# Altium footprint library pcb lib.PcbLib: 160 footprints (part 6 of 10)
Each footprint in its own frame and in the unit in brackets; x right, y up, seen from the top. Pads: shape width x height; smd on the part's side, far side on the other; paste and mask are expansions set on the pad; w line width, h text height; cw(c..) or ccw(c..) is an arc to the next point about the centre after c.
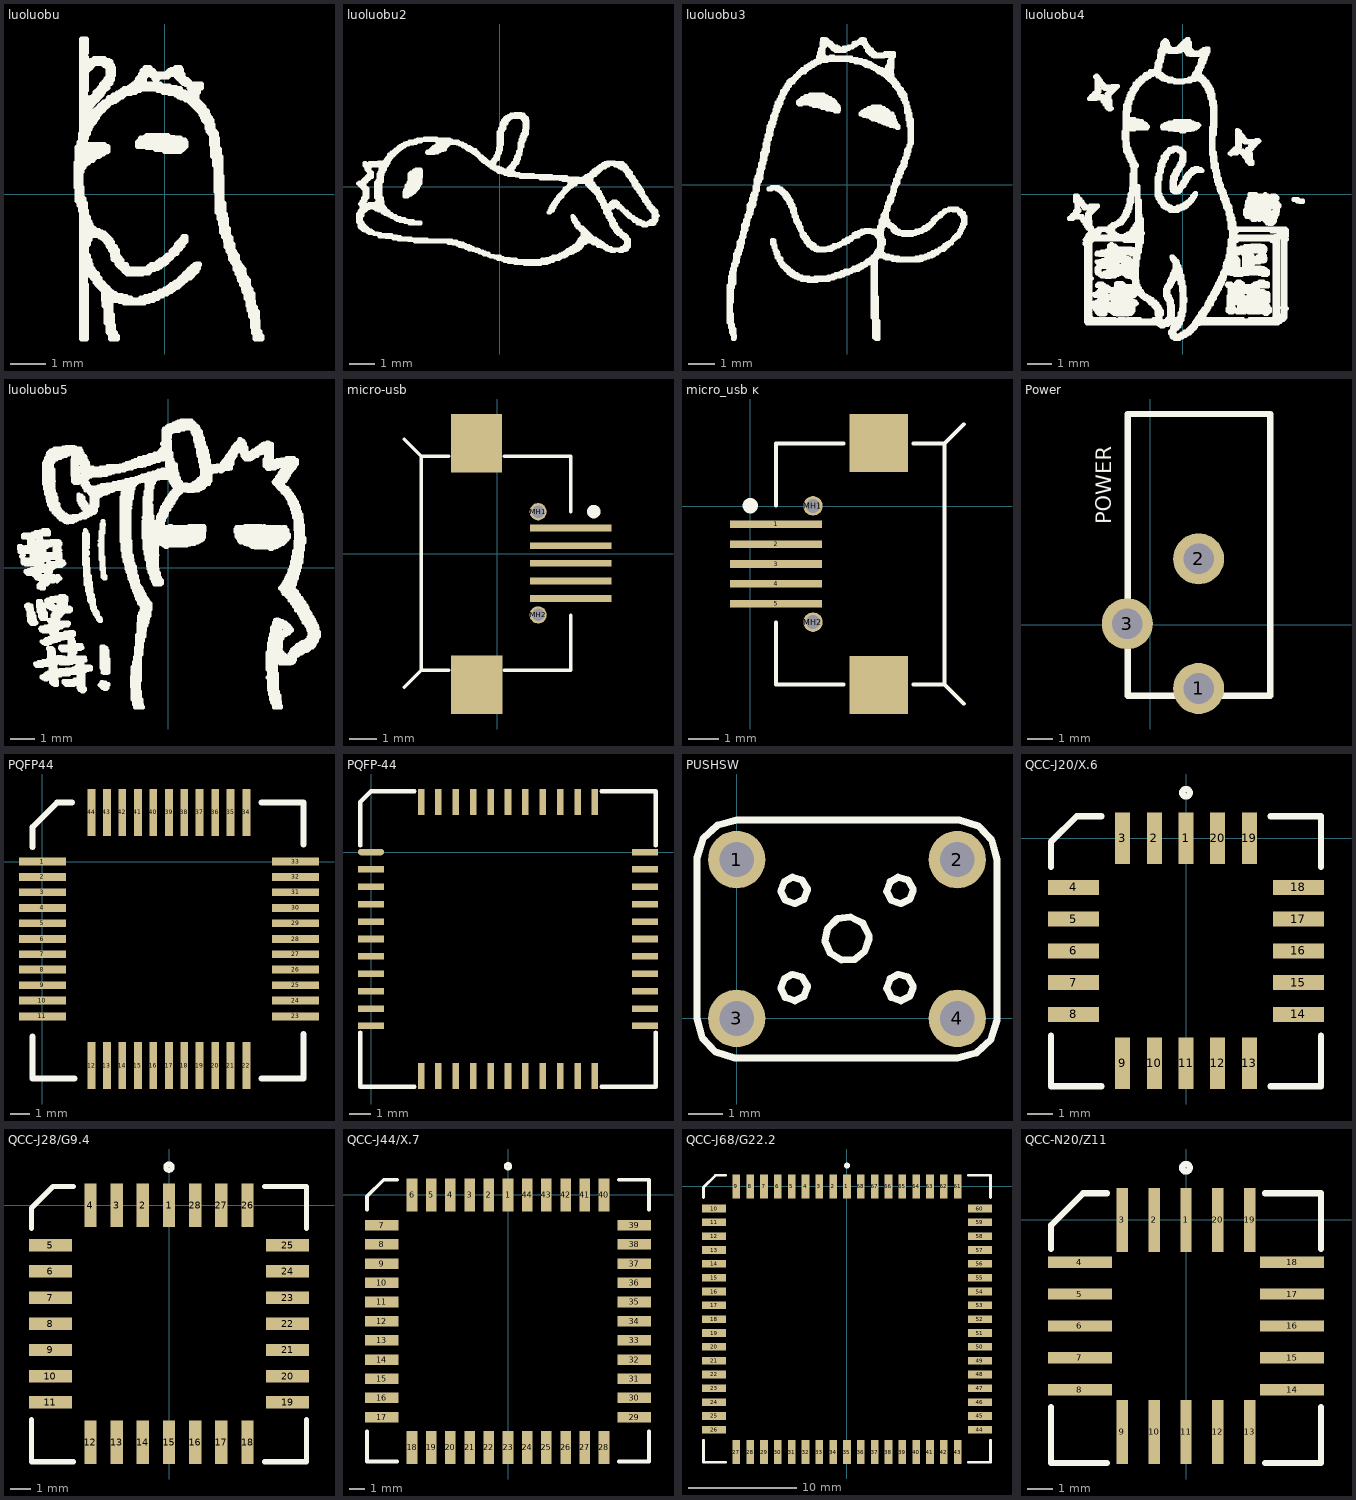
[diagram p5: the footprints below, top view; thin cyan lines are the x and y axes]

## luoluobu [mm]
Top Overlay:
  drawing of 576 lines, arcs and shapes, not listed

## luoluobu2 [mm]
Top Overlay:
  drawing of 573 lines, arcs and shapes, not listed

## luoluobu3 [mm]
Top Overlay:
  drawing of 804 lines, arcs and shapes, not listed

## luoluobu4 [mm]
Top Overlay:
  drawing of 1638 lines, arcs and shapes, not listed

## luoluobu5 [mm]
Top Overlay:
  drawing of 1518 lines, arcs and shapes, not listed

## micro-usb [mm]
pads (9):
  rect 3x0.25 smd: 1(2.714,0.944) 2(2.714,0.294) 3(2.714,-0.356) 4(2.714,-1.006) 5(2.714,-1.656)
  round 0.635 hole 0.457 unplated: MH1(1.506,1.544) MH2(1.506,-2.256)
  rect 1.9x2.159 smd: ""(-0.762,-4.826)
  rect 1.88x2.159 smd: ""(-0.762,4.064)
Top Overlay:
  circle w0.25: c3.554,1.549 r0.125
  lines w0.127: -3.424,-4.923 -2.794,-4.293 -1.778,-4.293 ; -3.424,4.211 -2.794,3.581 -1.778,3.581 ; -2.794,-4.256 -2.794,3.544 ; 0.254,-4.293 2.714,-4.293 ; 0.254,3.581 2.714,3.581 ; 2.714,-4.256 2.714,-2.261 ; 2.714,1.549 2.714,3.544

## micro_usb ĸ [mm]
pads (9):
  rect 3x0.25 smd: 1(0.842,-0.58) 2(0.842,-1.23) 3(0.842,-1.88) 4(0.842,-2.53) 5(0.842,-3.18)
  round 0.635 hole 0.457 unplated: MH1(2.05,0.02) MH2(2.05,-3.78)
  rect 1.9x1.9 smd: ""(4.2,-5.83) ""(4.2,2.07)
Top Overlay:
  circle w0.25: c0.002,0.025 r0.125
  lines w0.127: 0.842,-5.817 3.048,-5.817 ; 0.842,-5.78 0.842,-3.785 ; 0.842,0.025 0.842,2.02 ; 0.842,2.057 3.048,2.057 ; 5.334,-5.817 6.35,-5.817 6.98,-6.447 ; 5.334,2.057 6.35,2.057 6.98,2.687 ; 6.35,-5.78 6.35,2.02

## Power [mm]
height 1.73
pads (3):
  round 2 hole 1.2: 1(1.893,-2.503) 2(1.893,2.577) 3(-0.901,0.037)
Bottom Layer:
  lines w0.2: 1.67,-2.28 1.893,-2.503
Top Overlay:
  lines w0.254: -0.889,-2.794 -0.889,8.255 4.699,8.255 4.699,-2.794 -0.889,-2.794
  text "POWER" at -1.524,3.937 h0.6

## PQFP44 [mil]
pads (44):
  rect 95x16 smd: 1(0,0) 2(0,-31) 3(0,-62) 4(0,-94) 5(0,-125) 6(0,-157) 7(0,-188) 8(0,-219) 9(0,-251) 10(0,-282) 11(0,-314) 23(514,-314) 24(514,-282) 25(514,-251) 26(514,-219) 27(514,-188) 28(514,-157) 29(514,-125) 30(514,-94) 31(514,-62) 32(514,-31) 33(514,0)
  rect 16x95 smd: 12(100,-414) 13(131,-414) 14(162,-414) 15(194,-414) 16(225,-414) 17(257,-414) 18(288,-414) 19(319,-414) 20(351,-414) 21(382,-414) 22(414,-414) 34(414,100) 35(382,100) 36(351,100) 37(319,100) 38(288,100) 39(257,100) 40(225,100) 41(194,100) 42(162,100) 43(131,100) 44(100,100)
Top Overlay:
  lines w12: -20,-355 -20,-440 65,-440 ; -20,30 -20,70 30,120 60,120 ; 445,-440 530,-440 530,-350 ; 445,120 530,120 530,35

## PQFP-44 [mm] "stc"
pads (44):
  oval 1.2x0.3 smd: 1(0,0)
  rect 1.2x0.3 smd: 2(0,-0.8) 3(0,-1.6) 4(0,-2.4) 5(0,-3.2) 6(0,-4) 7(0,-4.8) 8(0,-5.6) 9(0,-6.4) 10(0,-7.2) 11(0,-8) 23(12.6,-8) 24(12.6,-7.2) 25(12.6,-6.4) 26(12.6,-5.6) 27(12.6,-4.8) 28(12.6,-4) 29(12.6,-3.2) 30(12.6,-2.4) 31(12.6,-1.6) 32(12.6,-0.8) 33(12.6,0)
  rect 0.3x1.2 smd: 12(2.3,-10.3) 13(3.1,-10.3) 14(3.9,-10.3) 15(4.7,-10.3) 16(5.5,-10.3) 17(6.3,-10.3) 18(7.1,-10.3) 19(7.9,-10.3) 20(8.7,-10.3) 21(9.5,-10.3) 22(10.3,-10.3) 34(10.3,2.3) 35(9.5,2.3) 36(8.7,2.3) 37(7.9,2.3) 38(7.1,2.3) 39(6.3,2.3) 40(5.5,2.3) 41(4.7,2.3) 42(3.9,2.3) 43(3.1,2.3) 44(2.3,2.3)
Top Overlay:
  lines w0.2: -0.5,-8.3 -0.5,-10.8 2,-10.8 ; -0.5,0.3 -0.5,2.3 0,2.8 2,2.8 ; 10.6,-10.8 13.1,-10.8 13.1,-8.3 ; 10.6,2.8 13.1,2.8 13.1,0.3

## PUSHSW [mil]
pads (4):
  round 65 hole 39.37: 1(0.06,179.65) 2(250.06,179.65) 3(0.06,-0.35) 4(250.06,-0.35)
Top Overlay:
  lines w8: -44.94,-0.35 -38.94,-22.35 -23.94,-38.35 -1.94,-45.35 0.06,-45.35 250.06,-45.35 272.06,-39.35 288.06,-24.35 295.06,-2.35 295.06,-0.35 295.06,179.65 289.06,201.65 274.06,217.65 252.06,224.65 250.06,224.65 0.06,224.65 -21.94,218.65 -37.94,203.65 -44.94,181.65 -44.94,179.65 -44.94,-0.35 ; 50.06,33.65 55.06,23.65 66.06,19.65 76.06,24.65 80.06,34.65 80.06,36.65 74.06,46.65 63.06,49.65 54.06,44.65 50.06,33.65 ; 50.06,143.65 55.06,133.65 66.06,129.65 76.06,134.65 80.06,144.65 80.06,146.65 74.06,156.65 63.06,159.65 54.06,154.65 50.06,143.65 ; 100.06,87.65 106.06,73.65 119.06,65.65 134.06,66.65 145.06,75.65 150.06,89.65 150.06,93.65 143.06,107.65 129.06,114.65 114.06,112.65 103.06,101.65 100.06,87.65 ; 170.06,33.65 175.06,23.65 186.06,19.65 196.06,24.65 200.06,34.65 200.06,36.65 194.06,46.65 183.06,49.65 174.06,44.65 170.06,33.65 ; 170.06,143.65 175.06,133.65 186.06,129.65 196.06,134.65 200.06,144.65 200.06,146.65 194.06,156.65 183.06,159.65 174.06,154.65 170.06,143.65

## QCC-J20/X.6 [mm]
pads (20):
  rect 0.6x2.05 smd: 1(0,0) 2(-1.27,0) 3(-2.54,0) 9(-2.54,-9) 10(-1.27,-9) 11(0,-9) 12(1.27,-9) 13(2.54,-9) 19(2.54,0) 20(1.27,0)
  rect 2.05x0.6 smd: 4(-4.5,-1.96) 5(-4.5,-3.23) 6(-4.5,-4.5) 7(-4.5,-5.77) 8(-4.5,-7.04) 14(4.5,-7.04) 15(4.5,-5.77) 16(4.5,-4.5) 17(4.5,-3.23) 18(4.5,-1.96)
Top Overlay:
  circle w0.25: c0,1.825 r0.15
  lines w0.25: -5.4,-7.887 -5.4,-9.913 -3.375,-9.913 ; -5.4,-1.137 -5.4,-0.137 -4.375,0.888 -3.375,0.888 ; 3.375,-9.913 5.4,-9.913 5.4,-7.887 ; 3.375,0.888 5.4,0.888 5.4,-1.137

## QCC-J28/G9.4 [mm]
pads (28):
  rect 0.6x2.1 smd: 1(0,0) 2(-1.27,0) 3(-2.54,0) 4(-3.81,0) 12(-3.81,-11.5) 13(-2.54,-11.5) 14(-1.27,-11.5) 15(0,-11.5) 16(1.27,-11.5) 17(2.54,-11.5) 18(3.81,-11.5) 26(3.81,0) 27(2.54,0) 28(1.27,0)
  rect 2.1x0.6 smd: 5(-5.75,-1.94) 6(-5.75,-3.21) 7(-5.75,-4.48) 8(-5.75,-5.75) 9(-5.75,-7.02) 10(-5.75,-8.29) 11(-5.75,-9.56) 19(5.75,-9.56) 20(5.75,-8.29) 21(5.75,-7.02) 22(5.75,-5.75) 23(5.75,-4.48) 24(5.75,-3.21) 25(5.75,-1.94)
Top Overlay:
  circle w0.25: c0,1.85 r0.15
  lines w0.25: -6.675,-10.407 -6.675,-12.437 -4.645,-12.437 ; -6.675,-1.117 -6.675,-0.137 -5.625,0.912 -4.645,0.912 ; 4.645,-12.437 6.675,-12.437 6.675,-10.407 ; 4.645,0.912 6.675,0.912 6.675,-1.117

## QCC-J44/X.7 [mm]
pads (44):
  rect 0.7x2.2 smd: 1(0,0) 2(-1.27,0) 3(-2.54,0) 4(-3.81,0) 5(-5.08,0) 6(-6.35,0) 18(-6.35,-16.7) 19(-5.08,-16.7) 20(-3.81,-16.7) 21(-2.54,-16.7) 22(-1.27,-16.7) 23(0,-16.7) 24(1.27,-16.7) 25(2.54,-16.7) 26(3.81,-16.7) 27(5.08,-16.7) 28(6.35,-16.7) 40(6.35,0) 41(5.08,0) 42(3.81,0) 43(2.54,0) 44(1.27,0)
  rect 2.2x0.7 smd: 7(-8.35,-2) 8(-8.35,-3.27) 9(-8.35,-4.54) 10(-8.35,-5.81) 11(-8.35,-7.08) 12(-8.35,-8.35) 13(-8.35,-9.62) 14(-8.35,-10.89) 15(-8.35,-12.16) 16(-8.35,-13.43) 17(-8.35,-14.7) 29(8.35,-14.7) 30(8.35,-13.43) 31(8.35,-12.16) 32(8.35,-10.89) 33(8.35,-9.62) 34(8.35,-8.35) 35(8.35,-7.08) 36(8.35,-5.81) 37(8.35,-4.54) 38(8.35,-3.27) 39(8.35,-2)
Top Overlay:
  circle w0.25: c0,1.9 r0.15
  lines w0.25: -9.325,-15.647 -9.325,-17.638 -7.335,-17.638 ; -9.325,-0.977 -9.325,-0.088 -8.225,1.012 -7.335,1.012 ; 7.335,-17.638 9.325,-17.638 9.325,-15.647 ; 7.335,1.012 9.325,1.012 9.325,-0.977

## QCC-J68/G22.2 [mm]
pads (68):
  rect 0.7x2.2 smd: 1(0,0) 2(-1.27,0) 3(-2.54,0) 4(-3.81,0) 5(-5.08,0) 6(-6.35,0) 7(-7.62,0) 8(-8.89,0) 9(-10.16,0) 27(-10.16,-24.4) 28(-8.89,-24.4) 29(-7.62,-24.4) 30(-6.35,-24.4) 31(-5.08,-24.4) 32(-3.81,-24.4) 33(-2.54,-24.4) 34(-1.27,-24.4) 35(0,-24.4) 36(1.27,-24.4) 37(2.54,-24.4) 38(3.81,-24.4) 39(5.08,-24.4) 40(6.35,-24.4) 41(7.62,-24.4) 42(8.89,-24.4) 43(10.16,-24.4) 61(10.16,0) 62(8.89,0) 63(7.62,0) 64(6.35,0) 65(5.08,0) 66(3.81,0) 67(2.54,0) 68(1.27,0)
  rect 2.2x0.7 smd: 10(-12.2,-2.04) 11(-12.2,-3.31) 12(-12.2,-4.58) 13(-12.2,-5.85) 14(-12.2,-7.12) 15(-12.2,-8.39) 16(-12.2,-9.66) 17(-12.2,-10.93) 18(-12.2,-12.2) 19(-12.2,-13.47) 20(-12.2,-14.74) 21(-12.2,-16.01) 22(-12.2,-17.28) 23(-12.2,-18.55) 24(-12.2,-19.82) 25(-12.2,-21.09) 26(-12.2,-22.36) 44(12.2,-22.36) 45(12.2,-21.09) 46(12.2,-19.82) 47(12.2,-18.55) 48(12.2,-17.28) 49(12.2,-16.01) 50(12.2,-14.74) 51(12.2,-13.47) 52(12.2,-12.2) 53(12.2,-10.93) 54(12.2,-9.66) 55(12.2,-8.39) 56(12.2,-7.12) 57(12.2,-5.85) 58(12.2,-4.58) 59(12.2,-3.31) 60(12.2,-2.04)
Top Overlay:
  circle w0.25: c0,1.9 r0.15
  lines w0.25: -13.175,-23.307 -13.175,-25.337 -11.145,-25.337 ; -13.175,-1.017 -13.175,-0.088 -12.075,1.012 -11.145,1.012 ; 11.145,-25.337 13.175,-25.337 13.175,-23.307 ; 11.145,1.012 13.175,1.012 13.175,-1.017

## QCC-N20/Z11 [mm]
pads (20):
  rect 0.45x2.55 smd: 1(0,0) 2(-1.27,0) 3(-2.54,0) 9(-2.54,-8.45) 10(-1.27,-8.45) 11(0,-8.45) 12(1.27,-8.45) 13(2.54,-8.45) 19(2.54,0) 20(1.27,0)
  rect 2.55x0.45 smd: 4(-4.225,-1.685) 5(-4.225,-2.955) 6(-4.225,-4.225) 7(-4.225,-5.495) 8(-4.225,-6.765) 14(4.225,-6.765) 15(4.225,-5.495) 16(4.225,-4.225) 17(4.225,-2.955) 18(4.225,-1.685)
Top Overlay:
  circle w0.25: c0,2.075 r0.15
  lines w0.25: -5.375,-7.462 -5.375,-9.688 -3.15,-9.688 ; -5.375,-1.163 -5.375,-0.212 -4.1,1.063 -3.15,1.063 ; 3.15,-9.688 5.375,-9.688 5.375,-7.462 ; 3.15,1.063 5.375,1.063 5.375,-1.163